# Altium footprint library Headers.PcbLib: 89 footprints (part 3 of 6)
Each footprint in its own frame and in the unit in brackets; x right, y up, seen from the top. Pads: shape width x height; smd on the part's side, far side on the other; paste and mask are expansions set on the pad; w line width, h text height; cw(c..) or ccw(c..) is an arc to the next point about the centre after c.
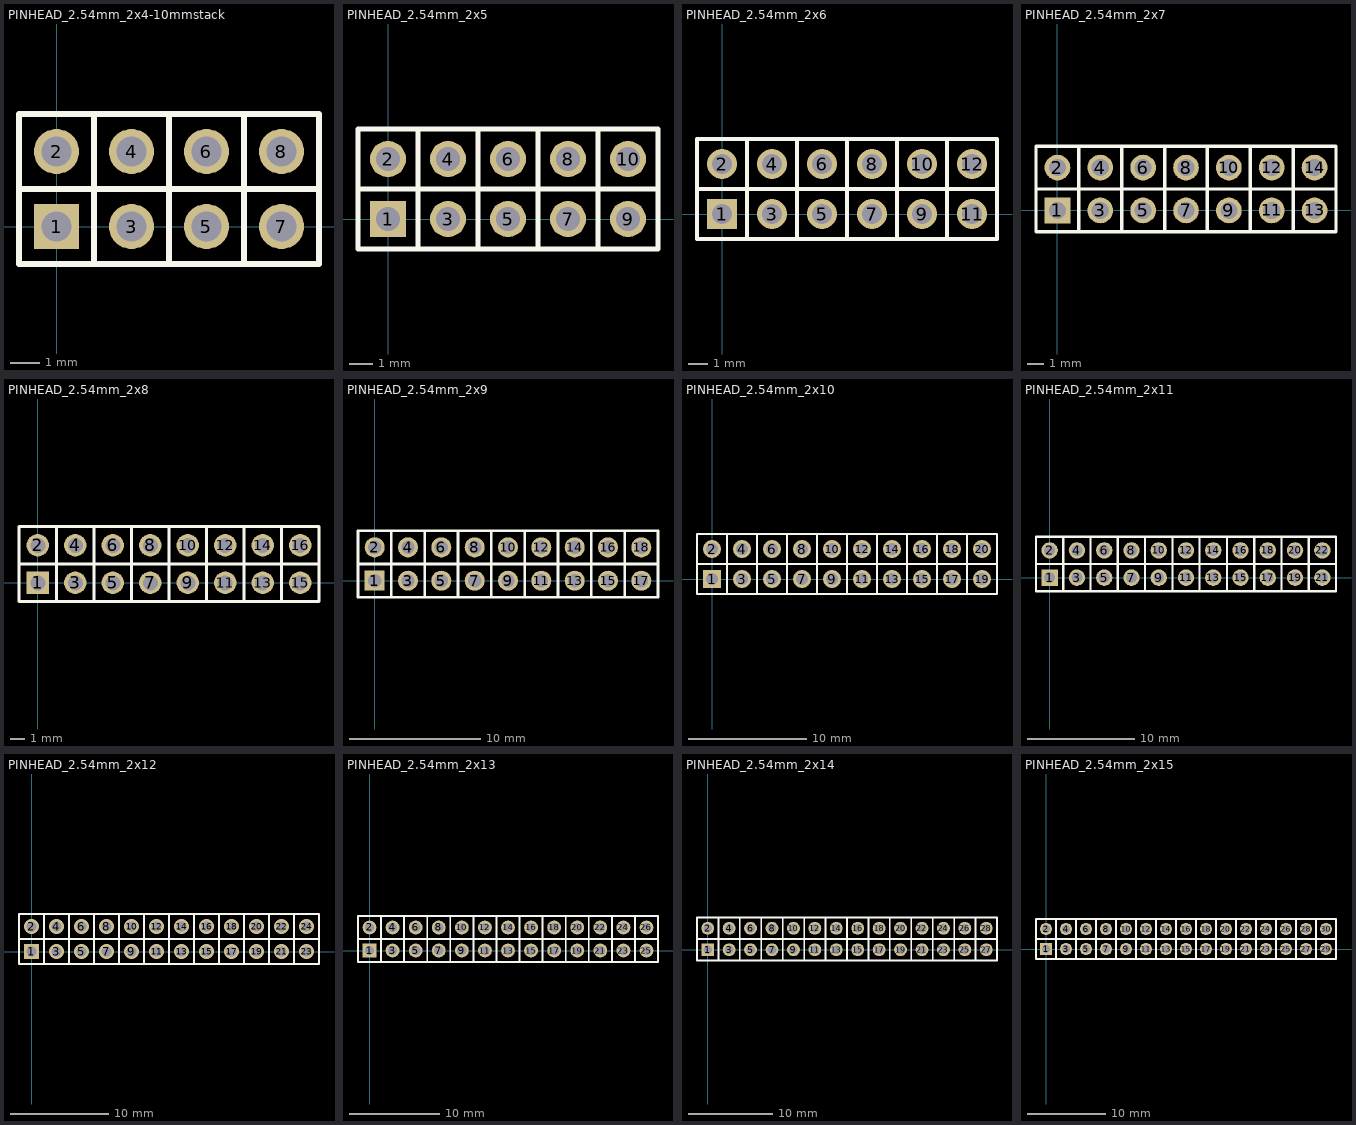
[diagram p2: the footprints below, top view; thin cyan lines are the x and y axes]

## PINHEAD_2.54mm_2x4-10mmstack [mil]
pads (8):
  rect 60x60 hole 40: 1(0,0)
  round 60 hole 40: 2(0,100) 3(100,0) 4(100,100) 5(200,0) 6(200,100) 7(300,0) 8(300,100)
Top Overlay:
  lines w7.87: -50,50 50,50 ; -50,50 -50,150 50,150 ; -50,50 -50,-50 50,-50 ; -50,50 50,50 ; 50,-50 150,-50 ; 50,-50 50,50 ; 50,-50 50,50 ; 50,50 50,150 ; 50,50 50,150 ; 50,50 150,50 ; 50,50 150,50 ; 50,150 150,150 ; 150,-50 150,50 ; 150,-50 250,-50 ; 150,-50 150,50 ; 150,50 150,150 ; 150,50 250,50 ; 150,50 150,150 ; 150,50 250,50 ; 150,150 250,150 ; 250,-50 350,-50 350,150 250,150 ; 250,-50 250,50 ; 250,-50 250,50 ; 250,50 250,150 ; 250,50 250,150 ; 250,50 350,50 250,50
3D body "MALEPINHEADER_2_54mm_2x4_10MMSTACK_54122-106081000LF.stp": height 626.38, standoff -118.11, extent -49.99,-45.08 350.01,145.08

## PINHEAD_2.54mm_2x5 [mil]
pads (10):
  rect 60x60 hole 40: 1(0,0)
  round 60 hole 40: 2(0,100) 3(100,0) 4(100,100) 5(200,0) 6(200,100) 7(300,0) 8(300,100) 9(400,0) 10(400,100)
Top Overlay:
  lines w7.87: -50,50 50,50 ; -50,50 -50,-50 50,-50 ; -50,50 -50,150 50,150 ; -50,50 50,50 ; 50,-50 50,50 ; 50,-50 50,50 ; 50,-50 150,-50 ; 50,50 150,50 ; 50,50 150,50 ; 50,50 50,150 ; 50,50 50,150 ; 50,150 150,150 ; 150,-50 150,50 ; 150,-50 250,-50 ; 150,-50 150,50 ; 150,50 250,50 ; 150,50 150,150 ; 150,50 250,50 ; 150,50 150,150 ; 150,150 250,150 ; 250,-50 250,50 ; 250,-50 250,50 ; 250,-50 350,-50 ; 250,50 350,50 ; 250,50 350,50 ; 250,50 250,150 ; 250,50 250,150 ; 250,150 350,150 ; 350,-50 350,50 ; 350,-50 450,-50 450,150 350,150 ; 350,-50 350,50 ; 350,50 450,50 350,50 ; 350,50 350,150 ; 350,50 350,150
3D body "User Library-HDR1X1 Rectangular Straight.step": height 339.58, standoff -124.98, extent -53.14,-53.14 53.16,53.16
3D body "User Library-HDR1X1 Rectangular Straight.step": height 339.58, standoff -124.98, extent 46.86,-53.14 153.16,53.16
3D body "User Library-HDR1X1 Rectangular Straight.step": height 339.58, standoff -124.98, extent 146.86,-53.14 253.16,53.16
3D body "User Library-HDR1X1 Rectangular Straight.step": height 339.58, standoff -124.98, extent 246.86,-53.14 353.16,53.16
3D body "User Library-HDR1X1 Rectangular Straight.step": height 339.58, standoff -124.98, extent 346.86,-53.14 453.16,53.16
3D body "User Library-HDR1X1 Rectangular Straight.step": height 339.58, standoff -124.98, extent 346.86,46.86 453.16,153.16
3D body "User Library-HDR1X1 Rectangular Straight.step": height 339.58, standoff -124.98, extent 246.86,46.86 353.16,153.16
3D body "User Library-HDR1X1 Rectangular Straight.step": height 339.58, standoff -124.98, extent 146.86,46.86 253.16,153.16
3D body "User Library-HDR1X1 Rectangular Straight.step": height 339.58, standoff -124.98, extent 46.86,46.86 153.16,153.16
3D body "User Library-HDR1X1 Rectangular Straight.step": height 339.58, standoff -124.98, extent -53.14,46.86 53.16,153.16

## PINHEAD_2.54mm_2x6 [mil]
pads (12):
  rect 60x60 hole 40: 1(0,0)
  round 60 hole 40: 2(0,100) 3(100,0) 4(100,100) 5(200,0) 6(200,100) 7(300,0) 8(300,100) 9(400,0) 10(400,100) 11(500,0) 12(500,100)
Top Overlay:
  lines w7.87: -50,50 50,50 ; -50,50 -50,-50 50,-50 ; -50,50 -50,150 50,150 ; -50,50 50,50 ; 50,-50 50,50 ; 50,-50 50,50 ; 50,-50 150,-50 ; 50,50 150,50 ; 50,50 150,50 ; 50,50 50,150 ; 50,50 50,150 ; 50,150 150,150 ; 150,-50 150,50 ; 150,-50 250,-50 ; 150,-50 150,50 ; 150,50 250,50 ; 150,50 150,150 ; 150,50 250,50 ; 150,50 150,150 ; 150,150 250,150 ; 250,-50 250,50 ; 250,-50 250,50 ; 250,-50 350,-50 ; 250,50 350,50 ; 250,50 350,50 ; 250,50 250,150 ; 250,50 250,150 ; 250,150 350,150 ; 350,-50 350,50 ; 350,-50 450,-50 ; 350,-50 350,50 ; 350,50 450,50 ; 350,50 350,150 ; 350,50 450,50 ; 350,50 350,150 ; 350,150 450,150 ; 450,-50 450,50 ; 450,-50 450,50 ; 450,-50 550,-50 550,150 450,150 ; 450,50 550,50 450,50 ; 450,50 450,150 ; 450,50 450,150
3D body "User Library-HDR1X1 Rectangular Straight.step": height 339.58, standoff -124.98, extent -53.14,-53.14 53.16,53.16
3D body "User Library-HDR1X1 Rectangular Straight.step": height 339.58, standoff -124.98, extent 46.86,-53.14 153.16,53.16
3D body "User Library-HDR1X1 Rectangular Straight.step": height 339.58, standoff -124.98, extent 146.86,-53.14 253.16,53.16
3D body "User Library-HDR1X1 Rectangular Straight.step": height 339.58, standoff -124.98, extent 246.86,-53.14 353.16,53.16
3D body "User Library-HDR1X1 Rectangular Straight.step": height 339.58, standoff -124.98, extent 346.86,-53.14 453.16,53.16
3D body "User Library-HDR1X1 Rectangular Straight.step": height 339.58, standoff -124.98, extent 446.86,-53.14 553.16,53.16
3D body "User Library-HDR1X1 Rectangular Straight.step": height 339.58, standoff -124.98, extent 446.86,46.86 553.16,153.16
3D body "User Library-HDR1X1 Rectangular Straight.step": height 339.58, standoff -124.98, extent 346.86,46.86 453.16,153.16
3D body "User Library-HDR1X1 Rectangular Straight.step": height 339.58, standoff -124.98, extent 246.86,46.86 353.16,153.16
3D body "User Library-HDR1X1 Rectangular Straight.step": height 339.58, standoff -124.98, extent 146.86,46.86 253.16,153.16
3D body "User Library-HDR1X1 Rectangular Straight.step": height 339.58, standoff -124.98, extent 46.86,46.86 153.16,153.16
3D body "User Library-HDR1X1 Rectangular Straight.step": height 339.58, standoff -124.98, extent -53.14,46.86 53.16,153.16

## PINHEAD_2.54mm_2x7 [mil]
pads (14):
  rect 60x60 hole 40: 1(0,0)
  round 60 hole 40: 2(0,100) 3(100,0) 4(100,100) 5(200,0) 6(200,100) 7(300,0) 8(300,100) 9(400,0) 10(400,100) 11(500,0) 12(500,100) 13(600,0) 14(600,100)
Top Overlay:
  lines w7.87: -50,50 50,50 ; -50,50 -50,-50 50,-50 ; -50,50 -50,150 50,150 ; -50,50 50,50 ; 50,-50 50,50 ; 50,-50 50,50 ; 50,-50 150,-50 ; 50,50 150,50 ; 50,50 150,50 ; 50,50 50,150 ; 50,50 50,150 ; 50,150 150,150 ; 150,-50 150,50 ; 150,-50 250,-50 ; 150,-50 150,50 ; 150,50 250,50 ; 150,50 150,150 ; 150,50 250,50 ; 150,50 150,150 ; 150,150 250,150 ; 250,-50 250,50 ; 250,-50 250,50 ; 250,-50 350,-50 ; 250,50 350,50 ; 250,50 350,50 ; 250,50 250,150 ; 250,50 250,150 ; 250,150 350,150 ; 350,-50 350,50 ; 350,-50 450,-50 ; 350,-50 350,50 ; 350,50 450,50 ; 350,50 350,150 ; 350,50 450,50 ; 350,50 350,150 ; 350,150 450,150 ; 450,-50 450,50 ; 450,-50 450,50 ; 450,-50 550,-50 ; 450,50 550,50 ; 450,50 550,50 ; 450,50 450,150 ; 450,50 450,150 ; 450,150 550,150 ; 550,-50 550,50 ; 550,-50 650,-50 650,150 550,150 ; 550,-50 550,50 ; 550,50 650,50 550,50 ; 550,50 550,150 ; 550,50 550,150
3D body "User Library-HDR1X1 Rectangular Straight.step": height 339.58, standoff -124.98, extent -53.14,-53.14 53.16,53.16
3D body "User Library-HDR1X1 Rectangular Straight.step": height 339.58, standoff -124.98, extent 46.86,-53.14 153.16,53.16
3D body "User Library-HDR1X1 Rectangular Straight.step": height 339.58, standoff -124.98, extent 146.86,-53.14 253.16,53.16
3D body "User Library-HDR1X1 Rectangular Straight.step": height 339.58, standoff -124.98, extent 246.86,-53.14 353.16,53.16
3D body "User Library-HDR1X1 Rectangular Straight.step": height 339.58, standoff -124.98, extent 346.86,-53.14 453.16,53.16
3D body "User Library-HDR1X1 Rectangular Straight.step": height 339.58, standoff -124.98, extent 446.86,-53.14 553.16,53.16
3D body "User Library-HDR1X1 Rectangular Straight.step": height 339.58, standoff -124.98, extent 546.86,-53.14 653.16,53.16
3D body "User Library-HDR1X1 Rectangular Straight.step": height 339.58, standoff -124.98, extent 546.86,46.86 653.16,153.16
3D body "User Library-HDR1X1 Rectangular Straight.step": height 339.58, standoff -124.98, extent 446.86,46.86 553.16,153.16
3D body "User Library-HDR1X1 Rectangular Straight.step": height 339.58, standoff -124.98, extent 346.86,46.86 453.16,153.16
3D body "User Library-HDR1X1 Rectangular Straight.step": height 339.58, standoff -124.98, extent 246.86,46.86 353.16,153.16
3D body "User Library-HDR1X1 Rectangular Straight.step": height 339.58, standoff -124.98, extent 146.86,46.86 253.16,153.16
3D body "User Library-HDR1X1 Rectangular Straight.step": height 339.58, standoff -124.98, extent 46.86,46.86 153.16,153.16
3D body "User Library-HDR1X1 Rectangular Straight.step": height 339.58, standoff -124.98, extent -53.14,46.86 53.16,153.16

## PINHEAD_2.54mm_2x8 [mil]
pads (16):
  rect 60x60 hole 40: 1(0,0)
  round 60 hole 40: 2(0,100) 3(100,0) 4(100,100) 5(200,0) 6(200,100) 7(300,0) 8(300,100) 9(400,0) 10(400,100) 11(500,0) 12(500,100) 13(600,0) 14(600,100) 15(700,0) 16(700,100)
Top Overlay:
  lines w7.87: -50,50 50,50 ; -50,50 -50,-50 50,-50 ; -50,50 -50,150 50,150 ; -50,50 50,50 ; 50,-50 50,50 ; 50,-50 50,50 ; 50,-50 150,-50 ; 50,50 150,50 ; 50,50 150,50 ; 50,50 50,150 ; 50,50 50,150 ; 50,150 150,150 ; 150,-50 150,50 ; 150,-50 250,-50 ; 150,-50 150,50 ; 150,50 250,50 ; 150,50 150,150 ; 150,50 250,50 ; 150,50 150,150 ; 150,150 250,150 ; 250,-50 250,50 ; 250,-50 250,50 ; 250,-50 350,-50 ; 250,50 350,50 ; 250,50 350,50 ; 250,50 250,150 ; 250,50 250,150 ; 250,150 350,150 ; 350,-50 350,50 ; 350,-50 450,-50 ; 350,-50 350,50 ; 350,50 450,50 ; 350,50 350,150 ; 350,50 450,50 ; 350,50 350,150 ; 350,150 450,150 ; 450,-50 450,50 ; 450,-50 450,50 ; 450,-50 550,-50 ; 450,50 550,50 ; 450,50 550,50 ; 450,50 450,150 ; 450,50 450,150 ; 450,150 550,150 ; 550,-50 550,50 ; 550,-50 650,-50 ; 550,-50 550,50 ; 550,50 650,50 ; 550,50 550,150 ; 550,50 650,50 ; 550,50 550,150 ; 550,150 650,150 ; 650,-50 650,50 ; 650,-50 650,50 ; 650,-50 750,-50 750,150 650,150 ; 650,50 750,50 650,50 ; 650,50 650,150 ; 650,50 650,150
3D body "User Library-HDR1X1 Rectangular Straight.step": height 339.58, standoff -124.98, extent -53.14,-53.14 53.16,53.16
3D body "User Library-HDR1X1 Rectangular Straight.step": height 339.58, standoff -124.98, extent 46.86,-53.14 153.16,53.16
3D body "User Library-HDR1X1 Rectangular Straight.step": height 339.58, standoff -124.98, extent 146.86,-53.14 253.16,53.16
3D body "User Library-HDR1X1 Rectangular Straight.step": height 339.58, standoff -124.98, extent 246.86,-53.14 353.16,53.16
3D body "User Library-HDR1X1 Rectangular Straight.step": height 339.58, standoff -124.98, extent 346.86,-53.14 453.16,53.16
3D body "User Library-HDR1X1 Rectangular Straight.step": height 339.58, standoff -124.98, extent 446.86,-53.14 553.16,53.16
3D body "User Library-HDR1X1 Rectangular Straight.step": height 339.58, standoff -124.98, extent 546.86,-53.14 653.16,53.16
3D body "User Library-HDR1X1 Rectangular Straight.step": height 339.58, standoff -124.98, extent 646.86,-53.14 753.16,53.16
3D body "User Library-HDR1X1 Rectangular Straight.step": height 339.58, standoff -124.98, extent 646.86,46.86 753.16,153.16
3D body "User Library-HDR1X1 Rectangular Straight.step": height 339.58, standoff -124.98, extent 546.86,46.86 653.16,153.16
3D body "User Library-HDR1X1 Rectangular Straight.step": height 339.58, standoff -124.98, extent 446.86,46.86 553.16,153.16
3D body "User Library-HDR1X1 Rectangular Straight.step": height 339.58, standoff -124.98, extent 346.86,46.86 453.16,153.16
3D body "User Library-HDR1X1 Rectangular Straight.step": height 339.58, standoff -124.98, extent 246.86,46.86 353.16,153.16
3D body "User Library-HDR1X1 Rectangular Straight.step": height 339.58, standoff -124.98, extent 146.86,46.86 253.16,153.16
3D body "User Library-HDR1X1 Rectangular Straight.step": height 339.58, standoff -124.98, extent 46.86,46.86 153.16,153.16
3D body "User Library-HDR1X1 Rectangular Straight.step": height 339.58, standoff -124.98, extent -53.14,46.86 53.16,153.16

## PINHEAD_2.54mm_2x9 [mil]
pads (18):
  rect 60x60 hole 40: 1(0,0)
  round 60 hole 40: 2(0,100) 3(100,0) 4(100,100) 5(200,0) 6(200,100) 7(300,0) 8(300,100) 9(400,0) 10(400,100) 11(500,0) 12(500,100) 13(600,0) 14(600,100) 15(700,0) 16(700,100) 17(800,0) 18(800,100)
Top Overlay:
  lines w7.87: -50,50 50,50 ; -50,50 -50,150 50,150 ; -50,50 -50,-50 50,-50 ; -50,50 50,50 ; 50,-50 150,-50 ; 50,-50 50,50 ; 50,-50 50,50 ; 50,50 50,150 ; 50,50 50,150 ; 50,50 150,50 ; 50,50 150,50 ; 50,150 150,150 ; 150,-50 150,50 ; 150,-50 250,-50 ; 150,-50 150,50 ; 150,50 150,150 ; 150,50 250,50 ; 150,50 150,150 ; 150,50 250,50 ; 150,150 250,150 ; 250,-50 350,-50 ; 250,-50 250,50 ; 250,-50 250,50 ; 250,50 250,150 ; 250,50 250,150 ; 250,50 350,50 ; 250,50 350,50 ; 250,150 350,150 ; 350,-50 350,50 ; 350,-50 450,-50 ; 350,-50 350,50 ; 350,50 350,150 ; 350,50 450,50 ; 350,50 350,150 ; 350,50 450,50 ; 350,150 450,150 ; 450,-50 550,-50 ; 450,-50 450,50 ; 450,-50 450,50 ; 450,50 450,150 ; 450,50 450,150 ; 450,50 550,50 ; 450,50 550,50 ; 450,150 550,150 ; 550,-50 550,50 ; 550,-50 650,-50 ; 550,-50 550,50 ; 550,50 550,150 ; 550,50 650,50 ; 550,50 550,150 ; 550,50 650,50 ; 550,150 650,150 ; 650,-50 750,-50 ; 650,-50 650,50 ; 650,-50 650,50 ; 650,50 650,150 ; 650,50 650,150 ; 650,50 750,50 ; 650,50 750,50 ; 650,150 750,150 ; 750,-50 750,50 ; 750,-50 850,-50 850,150 750,150 ; 750,-50 750,50 ; 750,50 750,150 ; 750,50 850,50 750,50 ; 750,50 750,150
3D body "User Library-HDR1X1 Rectangular Straight.step": height 339.58, standoff -124.98, extent -53.14,46.86 53.16,153.16
3D body "User Library-HDR1X1 Rectangular Straight.step": height 339.58, standoff -124.98, extent 46.86,46.86 153.16,153.16
3D body "User Library-HDR1X1 Rectangular Straight.step": height 339.58, standoff -124.98, extent 146.86,46.86 253.16,153.16
3D body "User Library-HDR1X1 Rectangular Straight.step": height 339.58, standoff -124.98, extent 246.86,46.86 353.16,153.16
3D body "User Library-HDR1X1 Rectangular Straight.step": height 339.58, standoff -124.98, extent 346.86,46.86 453.16,153.16
3D body "User Library-HDR1X1 Rectangular Straight.step": height 339.58, standoff -124.98, extent 446.86,46.86 553.16,153.16
3D body "User Library-HDR1X1 Rectangular Straight.step": height 339.58, standoff -124.98, extent 546.86,46.86 653.16,153.16
3D body "User Library-HDR1X1 Rectangular Straight.step": height 339.58, standoff -124.98, extent 646.86,46.86 753.16,153.16
3D body "User Library-HDR1X1 Rectangular Straight.step": height 339.58, standoff -124.98, extent 746.86,46.86 853.16,153.16
3D body "User Library-HDR1X1 Rectangular Straight.step": height 339.58, standoff -124.98, extent 746.86,-53.14 853.16,53.16
3D body "User Library-HDR1X1 Rectangular Straight.step": height 339.58, standoff -124.98, extent 646.86,-53.14 753.16,53.16
3D body "User Library-HDR1X1 Rectangular Straight.step": height 339.58, standoff -124.98, extent 546.86,-53.14 653.16,53.16
3D body "User Library-HDR1X1 Rectangular Straight.step": height 339.58, standoff -124.98, extent 446.86,-53.14 553.16,53.16
3D body "User Library-HDR1X1 Rectangular Straight.step": height 339.58, standoff -124.98, extent 346.86,-53.14 453.16,53.16
3D body "User Library-HDR1X1 Rectangular Straight.step": height 339.58, standoff -124.98, extent 246.86,-53.14 353.16,53.16
3D body "User Library-HDR1X1 Rectangular Straight.step": height 339.58, standoff -124.98, extent 146.86,-53.14 253.16,53.16
3D body "User Library-HDR1X1 Rectangular Straight.step": height 339.58, standoff -124.98, extent 46.86,-53.14 153.16,53.16
3D body "User Library-HDR1X1 Rectangular Straight.step": height 339.58, standoff -124.98, extent -53.14,-53.14 53.16,53.16

## PINHEAD_2.54mm_2x10 [mil]
pads (20):
  rect 60x60 hole 40: 1(0,0)
  round 60 hole 40: 2(0,100) 3(100,0) 4(100,100) 5(200,0) 6(200,100) 7(300,0) 8(300,100) 9(400,0) 10(400,100) 11(500,0) 12(500,100) 13(600,0) 14(600,100) 15(700,0) 16(700,100) 17(800,0) 18(800,100) 19(900,0) 20(900,100)
Top Overlay:
  lines w7.87: -50,50 50,50 ; -50,50 -50,-50 50,-50 ; -50,50 -50,150 50,150 ; -50,50 50,50 ; 50,-50 50,50 ; 50,-50 50,50 ; 50,-50 150,-50 ; 50,50 150,50 ; 50,50 150,50 ; 50,50 50,150 ; 50,50 50,150 ; 50,150 150,150 ; 150,-50 150,50 ; 150,-50 250,-50 ; 150,-50 150,50 ; 150,50 250,50 ; 150,50 150,150 ; 150,50 250,50 ; 150,50 150,150 ; 150,150 250,150 ; 250,-50 250,50 ; 250,-50 250,50 ; 250,-50 350,-50 ; 250,50 350,50 ; 250,50 350,50 ; 250,50 250,150 ; 250,50 250,150 ; 250,150 350,150 ; 350,-50 350,50 ; 350,-50 450,-50 ; 350,-50 350,50 ; 350,50 450,50 ; 350,50 350,150 ; 350,50 450,50 ; 350,50 350,150 ; 350,150 450,150 ; 450,-50 450,50 ; 450,-50 450,50 ; 450,-50 550,-50 ; 450,50 550,50 ; 450,50 550,50 ; 450,50 450,150 ; 450,50 450,150 ; 450,150 550,150 ; 550,-50 550,50 ; 550,-50 650,-50 ; 550,-50 550,50 ; 550,50 650,50 ; 550,50 550,150 ; 550,50 650,50 ; 550,50 550,150 ; 550,150 650,150 ; 650,-50 650,50 ; 650,-50 650,50 ; 650,-50 750,-50 ; 650,50 750,50 ; 650,50 750,50 ; 650,50 650,150 ; 650,50 650,150 ; 650,150 750,150 ; 750,-50 750,50 ; 750,-50 850,-50 ; 750,-50 750,50 ; 750,50 850,50 ; 750,50 750,150 ; 750,50 850,50 ; 750,50 750,150 ; 750,150 850,150 ; 850,-50 850,50 ; 850,-50 850,50 ; 850,-50 950,-50 950,150 850,150 ; 850,50 950,50 850,50 ; 850,50 850,150 ; 850,50 850,150
3D body "User Library-HDR1X1 Rectangular Straight.step": height 339.58, standoff -124.98, extent -53.14,-53.14 53.16,53.16
3D body "User Library-HDR1X1 Rectangular Straight.step": height 339.58, standoff -124.98, extent 46.86,-53.14 153.16,53.16
3D body "User Library-HDR1X1 Rectangular Straight.step": height 339.58, standoff -124.98, extent 146.86,-53.14 253.16,53.16
3D body "User Library-HDR1X1 Rectangular Straight.step": height 339.58, standoff -124.98, extent 246.86,-53.14 353.16,53.16
3D body "User Library-HDR1X1 Rectangular Straight.step": height 339.58, standoff -124.98, extent 346.86,-53.14 453.16,53.16
3D body "User Library-HDR1X1 Rectangular Straight.step": height 339.58, standoff -124.98, extent 446.86,-53.14 553.16,53.16
3D body "User Library-HDR1X1 Rectangular Straight.step": height 339.58, standoff -124.98, extent 546.86,-53.14 653.16,53.16
3D body "User Library-HDR1X1 Rectangular Straight.step": height 339.58, standoff -124.98, extent 646.86,-53.14 753.16,53.16
3D body "User Library-HDR1X1 Rectangular Straight.step": height 339.58, standoff -124.98, extent 746.86,-53.14 853.16,53.16
3D body "User Library-HDR1X1 Rectangular Straight.step": height 339.58, standoff -124.98, extent 846.86,-53.14 953.16,53.16
3D body "User Library-HDR1X1 Rectangular Straight.step": height 339.58, standoff -124.98, extent 846.86,46.86 953.16,153.16
3D body "User Library-HDR1X1 Rectangular Straight.step": height 339.58, standoff -124.98, extent 746.86,46.86 853.16,153.16
3D body "User Library-HDR1X1 Rectangular Straight.step": height 339.58, standoff -124.98, extent 646.86,46.86 753.16,153.16
3D body "User Library-HDR1X1 Rectangular Straight.step": height 339.58, standoff -124.98, extent 546.86,46.86 653.16,153.16
3D body "User Library-HDR1X1 Rectangular Straight.step": height 339.58, standoff -124.98, extent 446.86,46.86 553.16,153.16
3D body "User Library-HDR1X1 Rectangular Straight.step": height 339.58, standoff -124.98, extent 346.86,46.86 453.16,153.16
3D body "User Library-HDR1X1 Rectangular Straight.step": height 339.58, standoff -124.98, extent 246.86,46.86 353.16,153.16
3D body "User Library-HDR1X1 Rectangular Straight.step": height 339.58, standoff -124.98, extent 146.86,46.86 253.16,153.16
3D body "User Library-HDR1X1 Rectangular Straight.step": height 339.58, standoff -124.98, extent 46.86,46.86 153.16,153.16
3D body "User Library-HDR1X1 Rectangular Straight.step": height 339.58, standoff -124.98, extent -53.14,46.86 53.16,153.16

## PINHEAD_2.54mm_2x11 [mil]
pads (22):
  rect 60x60 hole 40: 1(0,0)
  round 60 hole 40: 2(0,100) 3(100,0) 4(100,100) 5(200,0) 6(200,100) 7(300,0) 8(300,100) 9(400,0) 10(400,100) 11(500,0) 12(500,100) 13(600,0) 14(600,100) 15(700,0) 16(700,100) 17(800,0) 18(800,100) 19(900,0) 20(900,100) 21(1000,0) 22(1000,100)
Top Overlay:
  lines w7.87: -50,50 50,50 ; -50,50 -50,-50 50,-50 ; -50,50 -50,150 50,150 ; -50,50 50,50 ; 50,-50 50,50 ; 50,-50 50,50 ; 50,-50 150,-50 ; 50,50 150,50 ; 50,50 150,50 ; 50,50 50,150 ; 50,50 50,150 ; 50,150 150,150 ; 150,-50 150,50 ; 150,-50 250,-50 ; 150,-50 150,50 ; 150,50 250,50 ; 150,50 150,150 ; 150,50 250,50 ; 150,50 150,150 ; 150,150 250,150 ; 250,-50 250,50 ; 250,-50 250,50 ; 250,-50 350,-50 ; 250,50 350,50 ; 250,50 350,50 ; 250,50 250,150 ; 250,50 250,150 ; 250,150 350,150 ; 350,-50 350,50 ; 350,-50 450,-50 ; 350,-50 350,50 ; 350,50 450,50 ; 350,50 350,150 ; 350,50 450,50 ; 350,50 350,150 ; 350,150 450,150 ; 450,-50 450,50 ; 450,-50 450,50 ; 450,-50 550,-50 ; 450,50 550,50 ; 450,50 550,50 ; 450,50 450,150 ; 450,50 450,150 ; 450,150 550,150 ; 550,-50 550,50 ; 550,-50 650,-50 ; 550,-50 550,50 ; 550,50 650,50 ; 550,50 550,150 ; 550,50 650,50 ; 550,50 550,150 ; 550,150 650,150 ; 650,-50 650,50 ; 650,-50 650,50 ; 650,-50 750,-50 ; 650,50 750,50 ; 650,50 750,50 ; 650,50 650,150 ; 650,50 650,150 ; 650,150 750,150 ; 750,-50 750,50 ; 750,-50 850,-50 ; 750,-50 750,50 ; 750,50 850,50 ; 750,50 750,150 ; 750,50 850,50 ; 750,50 750,150 ; 750,150 850,150 ; 850,-50 850,50 ; 850,-50 850,50 ; 850,-50 950,-50 ; 850,50 950,50 ; 850,50 950,50 ; 850,50 850,150 ; 850,50 850,150 ; 850,150 950,150 ; 950,-50 1050,-50 1050,150 950,150 ; 950,-50 950,50 ; 950,-50 950,50 ; 950,50 1050,50 950,50 ; 950,50 950,150 ; 950,50 950,150
3D body "User Library-HDR1X1 Rectangular Straight.step": height 339.58, standoff -124.98, extent 946.86,-53.14 1053.16,53.16
3D body "User Library-HDR1X1 Rectangular Straight.step": height 339.58, standoff -124.98, extent -53.14,-53.14 53.16,53.16
3D body "User Library-HDR1X1 Rectangular Straight.step": height 339.58, standoff -124.98, extent 46.86,-53.14 153.16,53.16
3D body "User Library-HDR1X1 Rectangular Straight.step": height 339.58, standoff -124.98, extent 146.86,-53.14 253.16,53.16
3D body "User Library-HDR1X1 Rectangular Straight.step": height 339.58, standoff -124.98, extent 246.86,-53.14 353.16,53.16
3D body "User Library-HDR1X1 Rectangular Straight.step": height 339.58, standoff -124.98, extent 346.86,-53.14 453.16,53.16
3D body "User Library-HDR1X1 Rectangular Straight.step": height 339.58, standoff -124.98, extent 446.86,-53.14 553.16,53.16
3D body "User Library-HDR1X1 Rectangular Straight.step": height 339.58, standoff -124.98, extent 546.86,-53.14 653.16,53.16
3D body "User Library-HDR1X1 Rectangular Straight.step": height 339.58, standoff -124.98, extent 646.86,-53.14 753.16,53.16
3D body "User Library-HDR1X1 Rectangular Straight.step": height 339.58, standoff -124.98, extent 746.86,-53.14 853.16,53.16
3D body "User Library-HDR1X1 Rectangular Straight.step": height 339.58, standoff -124.98, extent 846.86,-53.14 953.16,53.16
3D body "User Library-HDR1X1 Rectangular Straight.step": height 339.58, standoff -124.98, extent 846.86,46.86 953.16,153.16
3D body "User Library-HDR1X1 Rectangular Straight.step": height 339.58, standoff -124.98, extent 746.86,46.86 853.16,153.16
3D body "User Library-HDR1X1 Rectangular Straight.step": height 339.58, standoff -124.98, extent 646.86,46.86 753.16,153.16
3D body "User Library-HDR1X1 Rectangular Straight.step": height 339.58, standoff -124.98, extent 546.86,46.86 653.16,153.16
3D body "User Library-HDR1X1 Rectangular Straight.step": height 339.58, standoff -124.98, extent 446.86,46.86 553.16,153.16
3D body "User Library-HDR1X1 Rectangular Straight.step": height 339.58, standoff -124.98, extent 346.86,46.86 453.16,153.16
3D body "User Library-HDR1X1 Rectangular Straight.step": height 339.58, standoff -124.98, extent 246.86,46.86 353.16,153.16
3D body "User Library-HDR1X1 Rectangular Straight.step": height 339.58, standoff -124.98, extent 146.86,46.86 253.16,153.16
3D body "User Library-HDR1X1 Rectangular Straight.step": height 339.58, standoff -124.98, extent 46.86,46.86 153.16,153.16
3D body "User Library-HDR1X1 Rectangular Straight.step": height 339.58, standoff -124.98, extent -53.14,46.86 53.16,153.16
3D body "User Library-HDR1X1 Rectangular Straight.step": height 339.58, standoff -124.98, extent 946.86,46.86 1053.16,153.16

## PINHEAD_2.54mm_2x12 [mil]
pads (24):
  rect 60x60 hole 40: 1(0,0)
  round 60 hole 40: 2(0,100) 3(100,0) 4(100,100) 5(200,0) 6(200,100) 7(300,0) 8(300,100) 9(400,0) 10(400,100) 11(500,0) 12(500,100) 13(600,0) 14(600,100) 15(700,0) 16(700,100) 17(800,0) 18(800,100) 19(900,0) 20(900,100) 21(1000,0) 22(1000,100) 23(1100,0) 24(1100,100)
Top Overlay:
  lines w7.87: -50,50 50,50 ; -50,50 -50,-50 50,-50 ; -50,50 -50,150 50,150 ; -50,50 50,50 ; 50,-50 50,50 ; 50,-50 50,50 ; 50,-50 150,-50 ; 50,50 150,50 ; 50,50 150,50 ; 50,50 50,150 ; 50,50 50,150 ; 50,150 150,150 ; 150,-50 150,50 ; 150,-50 250,-50 ; 150,-50 150,50 ; 150,50 250,50 ; 150,50 150,150 ; 150,50 250,50 ; 150,50 150,150 ; 150,150 250,150 ; 250,-50 250,50 ; 250,-50 250,50 ; 250,-50 350,-50 ; 250,50 350,50 ; 250,50 350,50 ; 250,50 250,150 ; 250,50 250,150 ; 250,150 350,150 ; 350,-50 350,50 ; 350,-50 450,-50 ; 350,-50 350,50 ; 350,50 450,50 ; 350,50 350,150 ; 350,50 450,50 ; 350,50 350,150 ; 350,150 450,150 ; 450,-50 450,50 ; 450,-50 450,50 ; 450,-50 550,-50 ; 450,50 550,50 ; 450,50 550,50 ; 450,50 450,150 ; 450,50 450,150 ; 450,150 550,150 ; 550,-50 550,50 ; 550,-50 650,-50 ; 550,-50 550,50 ; 550,50 650,50 ; 550,50 550,150 ; 550,50 650,50 ; 550,50 550,150 ; 550,150 650,150 ; 650,-50 650,50 ; 650,-50 650,50 ; 650,-50 750,-50 ; 650,50 750,50 ; 650,50 750,50 ; 650,50 650,150 ; 650,50 650,150 ; 650,150 750,150 ; 750,-50 750,50 ; 750,-50 850,-50 ; 750,-50 750,50 ; 750,50 850,50 ; 750,50 750,150 ; 750,50 850,50 ; 750,50 750,150 ; 750,150 850,150 ; 850,-50 850,50 ; 850,-50 850,50 ; 850,-50 950,-50 ; 850,50 950,50 ; 850,50 950,50 ; 850,50 850,150 ; 850,50 850,150 ; 850,150 950,150 ; 950,-50 1050,-50 ; 950,-50 950,50 ; 950,-50 950,50 ; 950,50 1050,50 ; 950,50 950,150 ; 950,50 950,150 ; 950,50 1050,50 ; 950,150 1050,150 ; 1050,-50 1050,50 ; 1050,-50 1050,50 ; 1050,-50 1150,-50 1150,150 1050,150 ; 1050,50 1150,50 1050,50 ; 1050,50 1050,150 ; 1050,50 1050,150
3D body "User Library-HDR1X1 Rectangular Straight.step": height 339.58, standoff -124.98, extent 946.86,-53.14 1053.16,53.16
3D body "User Library-HDR1X1 Rectangular Straight.step": height 339.58, standoff -124.98, extent 1046.86,-53.14 1153.16,53.16
3D body "User Library-HDR1X1 Rectangular Straight.step": height 339.58, standoff -124.98, extent -53.14,-53.14 53.16,53.16
3D body "User Library-HDR1X1 Rectangular Straight.step": height 339.58, standoff -124.98, extent 46.86,-53.14 153.16,53.16
3D body "User Library-HDR1X1 Rectangular Straight.step": height 339.58, standoff -124.98, extent 146.86,-53.14 253.16,53.16
3D body "User Library-HDR1X1 Rectangular Straight.step": height 339.58, standoff -124.98, extent 246.86,-53.14 353.16,53.16
3D body "User Library-HDR1X1 Rectangular Straight.step": height 339.58, standoff -124.98, extent 346.86,-53.14 453.16,53.16
3D body "User Library-HDR1X1 Rectangular Straight.step": height 339.58, standoff -124.98, extent 446.86,-53.14 553.16,53.16
3D body "User Library-HDR1X1 Rectangular Straight.step": height 339.58, standoff -124.98, extent 546.86,-53.14 653.16,53.16
3D body "User Library-HDR1X1 Rectangular Straight.step": height 339.58, standoff -124.98, extent 646.86,-53.14 753.16,53.16
3D body "User Library-HDR1X1 Rectangular Straight.step": height 339.58, standoff -124.98, extent 746.86,-53.14 853.16,53.16
3D body "User Library-HDR1X1 Rectangular Straight.step": height 339.58, standoff -124.98, extent 846.86,-53.14 953.16,53.16
3D body "User Library-HDR1X1 Rectangular Straight.step": height 339.58, standoff -124.98, extent 846.86,46.86 953.16,153.16
3D body "User Library-HDR1X1 Rectangular Straight.step": height 339.58, standoff -124.98, extent 746.86,46.86 853.16,153.16
3D body "User Library-HDR1X1 Rectangular Straight.step": height 339.58, standoff -124.98, extent 646.86,46.86 753.16,153.16
3D body "User Library-HDR1X1 Rectangular Straight.step": height 339.58, standoff -124.98, extent 546.86,46.86 653.16,153.16
3D body "User Library-HDR1X1 Rectangular Straight.step": height 339.58, standoff -124.98, extent 446.86,46.86 553.16,153.16
3D body "User Library-HDR1X1 Rectangular Straight.step": height 339.58, standoff -124.98, extent 346.86,46.86 453.16,153.16
3D body "User Library-HDR1X1 Rectangular Straight.step": height 339.58, standoff -124.98, extent 246.86,46.86 353.16,153.16
3D body "User Library-HDR1X1 Rectangular Straight.step": height 339.58, standoff -124.98, extent 146.86,46.86 253.16,153.16
3D body "User Library-HDR1X1 Rectangular Straight.step": height 339.58, standoff -124.98, extent 46.86,46.86 153.16,153.16
3D body "User Library-HDR1X1 Rectangular Straight.step": height 339.58, standoff -124.98, extent -53.14,46.86 53.16,153.16
3D body "User Library-HDR1X1 Rectangular Straight.step": height 339.58, standoff -124.98, extent 1046.86,46.86 1153.16,153.16
3D body "User Library-HDR1X1 Rectangular Straight.step": height 339.58, standoff -124.98, extent 946.86,46.86 1053.16,153.16

## PINHEAD_2.54mm_2x13 [mil]
pads (26):
  rect 60x60 hole 40: 1(0,0)
  round 60 hole 40: 2(0,100) 3(100,0) 4(100,100) 5(200,0) 6(200,100) 7(300,0) 8(300,100) 9(400,0) 10(400,100) 11(500,0) 12(500,100) 13(600,0) 14(600,100) 15(700,0) 16(700,100) 17(800,0) 18(800,100) 19(900,0) 20(900,100) 21(1000,0) 22(1000,100) 23(1100,0) 24(1100,100) 25(1200,0) 26(1200,100)
Top Overlay:
  lines w7.87: -50,50 50,50 ; -50,50 -50,-50 50,-50 ; -50,50 -50,150 50,150 ; -50,50 50,50 ; 50,-50 50,50 ; 50,-50 50,50 ; 50,-50 150,-50 ; 50,50 150,50 ; 50,50 150,50 ; 50,50 50,150 ; 50,50 50,150 ; 50,150 150,150 ; 150,-50 150,50 ; 150,-50 250,-50 ; 150,-50 150,50 ; 150,50 250,50 ; 150,50 150,150 ; 150,50 250,50 ; 150,50 150,150 ; 150,150 250,150 ; 250,-50 250,50 ; 250,-50 250,50 ; 250,-50 350,-50 ; 250,50 350,50 ; 250,50 350,50 ; 250,50 250,150 ; 250,50 250,150 ; 250,150 350,150 ; 350,-50 350,50 ; 350,-50 450,-50 ; 350,-50 350,50 ; 350,50 450,50 ; 350,50 350,150 ; 350,50 450,50 ; 350,50 350,150 ; 350,150 450,150 ; 450,-50 450,50 ; 450,-50 450,50 ; 450,-50 550,-50 ; 450,50 550,50 ; 450,50 550,50 ; 450,50 450,150 ; 450,50 450,150 ; 450,150 550,150 ; 550,-50 550,50 ; 550,-50 650,-50 ; 550,-50 550,50 ; 550,50 650,50 ; 550,50 550,150 ; 550,50 650,50 ; 550,50 550,150 ; 550,150 650,150 ; 650,-50 650,50 ; 650,-50 650,50 ; 650,-50 750,-50 ; 650,50 750,50 ; 650,50 750,50 ; 650,50 650,150 ; 650,50 650,150 ; 650,150 750,150 ; 750,-50 750,50 ; 750,-50 850,-50 ; 750,-50 750,50 ; 750,50 850,50 ; 750,50 750,150 ; 750,50 850,50 ; 750,50 750,150 ; 750,150 850,150 ; 850,-50 850,50 ; 850,-50 850,50 ; 850,-50 950,-50 ; 850,50 950,50 ; 850,50 950,50 ; 850,50 850,150 ; 850,50 850,150 ; 850,150 950,150 ; 950,-50 1050,-50 ; 950,-50 950,50 ; 950,-50 950,50 ; 950,50 1050,50 ; 950,50 950,150 ; 950,50 950,150 ; 950,50 1050,50 ; 950,150 1050,150 ; 1050,-50 1050,50 ; 1050,-50 1050,50 ; 1050,-50 1150,-50 ; 1050,50 1150,50 ; 1050,50 1150,50 ; 1050,50 1050,150 ; 1050,50 1050,150 ; 1050,150 1150,150 ; 1150,-50 1150,50 ; 1150,-50 1250,-50 1250,150 1150,150 ; 1150,-50 1150,50 ; 1150,50 1250,50 1150,50 ; 1150,50 1150,150 ; 1150,50 1150,150
3D body "User Library-HDR1X1 Rectangular Straight.step": height 339.58, standoff -124.98, extent 946.86,-53.14 1053.16,53.16
3D body "User Library-HDR1X1 Rectangular Straight.step": height 339.58, standoff -124.98, extent 1046.86,-53.14 1153.16,53.16
3D body "User Library-HDR1X1 Rectangular Straight.step": height 339.58, standoff -124.98, extent 1146.86,-53.14 1253.16,53.16
3D body "User Library-HDR1X1 Rectangular Straight.step": height 339.58, standoff -124.98, extent -53.14,-53.14 53.16,53.16
3D body "User Library-HDR1X1 Rectangular Straight.step": height 339.58, standoff -124.98, extent 46.86,-53.14 153.16,53.16
3D body "User Library-HDR1X1 Rectangular Straight.step": height 339.58, standoff -124.98, extent 146.86,-53.14 253.16,53.16
3D body "User Library-HDR1X1 Rectangular Straight.step": height 339.58, standoff -124.98, extent 246.86,-53.14 353.16,53.16
3D body "User Library-HDR1X1 Rectangular Straight.step": height 339.58, standoff -124.98, extent 346.86,-53.14 453.16,53.16
3D body "User Library-HDR1X1 Rectangular Straight.step": height 339.58, standoff -124.98, extent 446.86,-53.14 553.16,53.16
3D body "User Library-HDR1X1 Rectangular Straight.step": height 339.58, standoff -124.98, extent 546.86,-53.14 653.16,53.16
3D body "User Library-HDR1X1 Rectangular Straight.step": height 339.58, standoff -124.98, extent 646.86,-53.14 753.16,53.16
3D body "User Library-HDR1X1 Rectangular Straight.step": height 339.58, standoff -124.98, extent 746.86,-53.14 853.16,53.16
3D body "User Library-HDR1X1 Rectangular Straight.step": height 339.58, standoff -124.98, extent 846.86,-53.14 953.16,53.16
3D body "User Library-HDR1X1 Rectangular Straight.step": height 339.58, standoff -124.98, extent 846.86,46.86 953.16,153.16
3D body "User Library-HDR1X1 Rectangular Straight.step": height 339.58, standoff -124.98, extent 746.86,46.86 853.16,153.16
3D body "User Library-HDR1X1 Rectangular Straight.step": height 339.58, standoff -124.98, extent 646.86,46.86 753.16,153.16
3D body "User Library-HDR1X1 Rectangular Straight.step": height 339.58, standoff -124.98, extent 546.86,46.86 653.16,153.16
3D body "User Library-HDR1X1 Rectangular Straight.step": height 339.58, standoff -124.98, extent 446.86,46.86 553.16,153.16
3D body "User Library-HDR1X1 Rectangular Straight.step": height 339.58, standoff -124.98, extent 346.86,46.86 453.16,153.16
3D body "User Library-HDR1X1 Rectangular Straight.step": height 339.58, standoff -124.98, extent 246.86,46.86 353.16,153.16
3D body "User Library-HDR1X1 Rectangular Straight.step": height 339.58, standoff -124.98, extent 146.86,46.86 253.16,153.16
3D body "User Library-HDR1X1 Rectangular Straight.step": height 339.58, standoff -124.98, extent 46.86,46.86 153.16,153.16
3D body "User Library-HDR1X1 Rectangular Straight.step": height 339.58, standoff -124.98, extent -53.14,46.86 53.16,153.16
3D body "User Library-HDR1X1 Rectangular Straight.step": height 339.58, standoff -124.98, extent 1146.86,46.86 1253.16,153.16
3D body "User Library-HDR1X1 Rectangular Straight.step": height 339.58, standoff -124.98, extent 1046.86,46.86 1153.16,153.16
3D body "User Library-HDR1X1 Rectangular Straight.step": height 339.58, standoff -124.98, extent 946.86,46.86 1053.16,153.16

## PINHEAD_2.54mm_2x14 [mil]
pads (28):
  rect 60x60 hole 40: 1(0,0)
  round 60 hole 40: 2(0,100) 3(100,0) 4(100,100) 5(200,0) 6(200,100) 7(300,0) 8(300,100) 9(400,0) 10(400,100) 11(500,0) 12(500,100) 13(600,0) 14(600,100) 15(700,0) 16(700,100) 17(800,0) 18(800,100) 19(900,0) 20(900,100) 21(1000,0) 22(1000,100) 23(1100,0) 24(1100,100) 25(1200,0) 26(1200,100) 27(1300,0) 28(1300,100)
Top Overlay:
  lines w7.87: -50,50 50,50 ; -50,50 -50,-50 50,-50 ; -50,50 -50,150 50,150 ; -50,50 50,50 ; 50,-50 50,50 ; 50,-50 50,50 ; 50,-50 150,-50 ; 50,50 150,50 ; 50,50 150,50 ; 50,50 50,150 ; 50,50 50,150 ; 50,150 150,150 ; 150,-50 150,50 ; 150,-50 250,-50 ; 150,-50 150,50 ; 150,50 250,50 ; 150,50 150,150 ; 150,50 250,50 ; 150,50 150,150 ; 150,150 250,150 ; 250,-50 250,50 ; 250,-50 250,50 ; 250,-50 350,-50 ; 250,50 350,50 ; 250,50 350,50 ; 250,50 250,150 ; 250,50 250,150 ; 250,150 350,150 ; 350,-50 350,50 ; 350,-50 450,-50 ; 350,-50 350,50 ; 350,50 450,50 ; 350,50 350,150 ; 350,50 450,50 ; 350,50 350,150 ; 350,150 450,150 ; 450,-50 450,50 ; 450,-50 450,50 ; 450,-50 550,-50 ; 450,50 550,50 ; 450,50 550,50 ; 450,50 450,150 ; 450,50 450,150 ; 450,150 550,150 ; 550,-50 550,50 ; 550,-50 650,-50 ; 550,-50 550,50 ; 550,50 650,50 ; 550,50 550,150 ; 550,50 650,50 ; 550,50 550,150 ; 550,150 650,150 ; 650,-50 650,50 ; 650,-50 650,50 ; 650,-50 750,-50 ; 650,50 750,50 ; 650,50 750,50 ; 650,50 650,150 ; 650,50 650,150 ; 650,150 750,150 ; 750,-50 750,50 ; 750,-50 850,-50 ; 750,-50 750,50 ; 750,50 850,50 ; 750,50 750,150 ; 750,50 850,50 ; 750,50 750,150 ; 750,150 850,150 ; 850,-50 850,50 ; 850,-50 850,50 ; 850,-50 950,-50 ; 850,50 950,50 ; 850,50 950,50 ; 850,50 850,150 ; 850,50 850,150 ; 850,150 950,150 ; 950,-50 1050,-50 ; 950,-50 950,50 ; 950,-50 950,50 ; 950,50 1050,50 ; 950,50 950,150 ; 950,50 950,150 ; 950,50 1050,50 ; 950,150 1050,150 ; 1050,-50 1050,50 ; 1050,-50 1050,50 ; 1050,-50 1150,-50 ; 1050,50 1150,50 ; 1050,50 1150,50 ; 1050,50 1050,150 ; 1050,50 1050,150 ; 1050,150 1150,150 ; 1150,-50 1150,50 ; 1150,-50 1250,-50 ; 1150,-50 1150,50 ; 1150,50 1250,50 ; 1150,50 1150,150 ; 1150,50 1250,50 ; 1150,50 1150,150 ; 1150,150 1250,150 ; 1250,-50 1250,50 ; 1250,-50 1250,50 ; 1250,-50 1350,-50 1350,150 1250,150 ; 1250,50 1350,50 1250,50 ; 1250,50 1250,150 ; 1250,50 1250,150
3D body "User Library-HDR1X1 Rectangular Straight.step": height 339.58, standoff -124.98, extent 946.86,-53.14 1053.16,53.16
3D body "User Library-HDR1X1 Rectangular Straight.step": height 339.58, standoff -124.98, extent 1046.86,-53.14 1153.16,53.16
3D body "User Library-HDR1X1 Rectangular Straight.step": height 339.58, standoff -124.98, extent 1146.86,-53.14 1253.16,53.16
3D body "User Library-HDR1X1 Rectangular Straight.step": height 339.58, standoff -124.98, extent 1246.86,-53.14 1353.16,53.16
3D body "User Library-HDR1X1 Rectangular Straight.step": height 339.58, standoff -124.98, extent -53.14,-53.14 53.16,53.16
3D body "User Library-HDR1X1 Rectangular Straight.step": height 339.58, standoff -124.98, extent 46.86,-53.14 153.16,53.16
3D body "User Library-HDR1X1 Rectangular Straight.step": height 339.58, standoff -124.98, extent 146.86,-53.14 253.16,53.16
3D body "User Library-HDR1X1 Rectangular Straight.step": height 339.58, standoff -124.98, extent 246.86,-53.14 353.16,53.16
3D body "User Library-HDR1X1 Rectangular Straight.step": height 339.58, standoff -124.98, extent 346.86,-53.14 453.16,53.16
3D body "User Library-HDR1X1 Rectangular Straight.step": height 339.58, standoff -124.98, extent 446.86,-53.14 553.16,53.16
3D body "User Library-HDR1X1 Rectangular Straight.step": height 339.58, standoff -124.98, extent 546.86,-53.14 653.16,53.16
3D body "User Library-HDR1X1 Rectangular Straight.step": height 339.58, standoff -124.98, extent 646.86,-53.14 753.16,53.16
3D body "User Library-HDR1X1 Rectangular Straight.step": height 339.58, standoff -124.98, extent 746.86,-53.14 853.16,53.16
3D body "User Library-HDR1X1 Rectangular Straight.step": height 339.58, standoff -124.98, extent 846.86,-53.14 953.16,53.16
3D body "User Library-HDR1X1 Rectangular Straight.step": height 339.58, standoff -124.98, extent 846.86,46.86 953.16,153.16
3D body "User Library-HDR1X1 Rectangular Straight.step": height 339.58, standoff -124.98, extent 746.86,46.86 853.16,153.16
3D body "User Library-HDR1X1 Rectangular Straight.step": height 339.58, standoff -124.98, extent 646.86,46.86 753.16,153.16
3D body "User Library-HDR1X1 Rectangular Straight.step": height 339.58, standoff -124.98, extent 546.86,46.86 653.16,153.16
3D body "User Library-HDR1X1 Rectangular Straight.step": height 339.58, standoff -124.98, extent 446.86,46.86 553.16,153.16
3D body "User Library-HDR1X1 Rectangular Straight.step": height 339.58, standoff -124.98, extent 346.86,46.86 453.16,153.16
3D body "User Library-HDR1X1 Rectangular Straight.step": height 339.58, standoff -124.98, extent 246.86,46.86 353.16,153.16
3D body "User Library-HDR1X1 Rectangular Straight.step": height 339.58, standoff -124.98, extent 146.86,46.86 253.16,153.16
3D body "User Library-HDR1X1 Rectangular Straight.step": height 339.58, standoff -124.98, extent 46.86,46.86 153.16,153.16
3D body "User Library-HDR1X1 Rectangular Straight.step": height 339.58, standoff -124.98, extent -53.14,46.86 53.16,153.16
3D body "User Library-HDR1X1 Rectangular Straight.step": height 339.58, standoff -124.98, extent 1246.86,46.86 1353.16,153.16
3D body "User Library-HDR1X1 Rectangular Straight.step": height 339.58, standoff -124.98, extent 1146.86,46.86 1253.16,153.16
3D body "User Library-HDR1X1 Rectangular Straight.step": height 339.58, standoff -124.98, extent 1046.86,46.86 1153.16,153.16
3D body "User Library-HDR1X1 Rectangular Straight.step": height 339.58, standoff -124.98, extent 946.86,46.86 1053.16,153.16

## PINHEAD_2.54mm_2x15 [mil]
pads (30):
  rect 60x60 hole 40: 1(0,0)
  round 60 hole 40: 2(0,100) 3(100,0) 4(100,100) 5(200,0) 6(200,100) 7(300,0) 8(300,100) 9(400,0) 10(400,100) 11(500,0) 12(500,100) 13(600,0) 14(600,100) 15(700,0) 16(700,100) 17(800,0) 18(800,100) 19(900,0) 20(900,100) 21(1000,0) 22(1000,100) 23(1100,0) 24(1100,100) 25(1200,0) 26(1200,100) 27(1300,0) 28(1300,100) 29(1400,0) 30(1400,100)
Top Overlay:
  lines w7.87: -50,50 50,50 ; -50,50 -50,-50 50,-50 ; -50,50 -50,150 50,150 ; -50,50 50,50 ; 50,-50 50,50 ; 50,-50 50,50 ; 50,-50 150,-50 ; 50,50 150,50 ; 50,50 150,50 ; 50,50 50,150 ; 50,50 50,150 ; 50,150 150,150 ; 150,-50 150,50 ; 150,-50 250,-50 ; 150,-50 150,50 ; 150,50 250,50 ; 150,50 150,150 ; 150,50 250,50 ; 150,50 150,150 ; 150,150 250,150 ; 250,-50 250,50 ; 250,-50 250,50 ; 250,-50 350,-50 ; 250,50 350,50 ; 250,50 350,50 ; 250,50 250,150 ; 250,50 250,150 ; 250,150 350,150 ; 350,-50 350,50 ; 350,-50 450,-50 ; 350,-50 350,50 ; 350,50 450,50 ; 350,50 350,150 ; 350,50 450,50 ; 350,50 350,150 ; 350,150 450,150 ; 450,-50 450,50 ; 450,-50 450,50 ; 450,-50 550,-50 ; 450,50 550,50 ; 450,50 550,50 ; 450,50 450,150 ; 450,50 450,150 ; 450,150 550,150 ; 550,-50 550,50 ; 550,-50 650,-50 ; 550,-50 550,50 ; 550,50 650,50 ; 550,50 550,150 ; 550,50 650,50 ; 550,50 550,150 ; 550,150 650,150 ; 650,-50 650,50 ; 650,-50 650,50 ; 650,-50 750,-50 ; 650,50 750,50 ; 650,50 750,50 ; 650,50 650,150 ; 650,50 650,150 ; 650,150 750,150 ; 750,-50 750,50 ; 750,-50 850,-50 ; 750,-50 750,50 ; 750,50 850,50 ; 750,50 750,150 ; 750,50 850,50 ; 750,50 750,150 ; 750,150 850,150 ; 850,-50 850,50 ; 850,-50 850,50 ; 850,-50 950,-50 ; 850,50 950,50 ; 850,50 950,50 ; 850,50 850,150 ; 850,50 850,150 ; 850,150 950,150 ; 950,-50 1050,-50 ; 950,-50 950,50 ; 950,-50 950,50 ; 950,50 1050,50 ; 950,50 950,150 ; 950,50 950,150 ; 950,50 1050,50 ; 950,150 1050,150 ; 1050,-50 1050,50 ; 1050,-50 1050,50 ; 1050,-50 1150,-50 ; 1050,50 1150,50 ; 1050,50 1150,50 ; 1050,50 1050,150 ; 1050,50 1050,150 ; 1050,150 1150,150 ; 1150,-50 1150,50 ; 1150,-50 1250,-50 ; 1150,-50 1150,50 ; 1150,50 1250,50 ; 1150,50 1150,150 ; 1150,50 1250,50 ; 1150,50 1150,150 ; 1150,150 1250,150 ; 1250,-50 1250,50 ; 1250,-50 1250,50 ; 1250,-50 1350,-50 ; 1250,50 1350,50 ; 1250,50 1350,50 ; 1250,50 1250,150 ; 1250,50 1250,150 ; 1250,150 1350,150 ; 1350,-50 1350,50 ; 1350,-50 1450,-50 1450,150 1350,150 ; 1350,-50 1350,50 ; 1350,50 1450,50 1350,50 ; 1350,50 1350,150 ; 1350,50 1350,150
3D body "User Library-HDR1X1 Rectangular Straight.step": height 339.58, standoff -124.98, extent 946.86,-53.14 1053.16,53.16
3D body "User Library-HDR1X1 Rectangular Straight.step": height 339.58, standoff -124.98, extent 1046.86,-53.14 1153.16,53.16
3D body "User Library-HDR1X1 Rectangular Straight.step": height 339.58, standoff -124.98, extent 1146.86,-53.14 1253.16,53.16
3D body "User Library-HDR1X1 Rectangular Straight.step": height 339.58, standoff -124.98, extent 1246.86,-53.14 1353.16,53.16
3D body "User Library-HDR1X1 Rectangular Straight.step": height 339.58, standoff -124.98, extent 1346.86,-53.14 1453.16,53.16
3D body "User Library-HDR1X1 Rectangular Straight.step": height 339.58, standoff -124.98, extent -53.14,-53.14 53.16,53.16
3D body "User Library-HDR1X1 Rectangular Straight.step": height 339.58, standoff -124.98, extent 46.86,-53.14 153.16,53.16
3D body "User Library-HDR1X1 Rectangular Straight.step": height 339.58, standoff -124.98, extent 146.86,-53.14 253.16,53.16
3D body "User Library-HDR1X1 Rectangular Straight.step": height 339.58, standoff -124.98, extent 246.86,-53.14 353.16,53.16
3D body "User Library-HDR1X1 Rectangular Straight.step": height 339.58, standoff -124.98, extent 346.86,-53.14 453.16,53.16
3D body "User Library-HDR1X1 Rectangular Straight.step": height 339.58, standoff -124.98, extent 446.86,-53.14 553.16,53.16
3D body "User Library-HDR1X1 Rectangular Straight.step": height 339.58, standoff -124.98, extent 546.86,-53.14 653.16,53.16
3D body "User Library-HDR1X1 Rectangular Straight.step": height 339.58, standoff -124.98, extent 646.86,-53.14 753.16,53.16
3D body "User Library-HDR1X1 Rectangular Straight.step": height 339.58, standoff -124.98, extent 746.86,-53.14 853.16,53.16
3D body "User Library-HDR1X1 Rectangular Straight.step": height 339.58, standoff -124.98, extent 846.86,-53.14 953.16,53.16
3D body "User Library-HDR1X1 Rectangular Straight.step": height 339.58, standoff -124.98, extent 846.86,46.86 953.16,153.16
3D body "User Library-HDR1X1 Rectangular Straight.step": height 339.58, standoff -124.98, extent 746.86,46.86 853.16,153.16
3D body "User Library-HDR1X1 Rectangular Straight.step": height 339.58, standoff -124.98, extent 646.86,46.86 753.16,153.16
3D body "User Library-HDR1X1 Rectangular Straight.step": height 339.58, standoff -124.98, extent 546.86,46.86 653.16,153.16
3D body "User Library-HDR1X1 Rectangular Straight.step": height 339.58, standoff -124.98, extent 446.86,46.86 553.16,153.16
3D body "User Library-HDR1X1 Rectangular Straight.step": height 339.58, standoff -124.98, extent 346.86,46.86 453.16,153.16
3D body "User Library-HDR1X1 Rectangular Straight.step": height 339.58, standoff -124.98, extent 246.86,46.86 353.16,153.16
3D body "User Library-HDR1X1 Rectangular Straight.step": height 339.58, standoff -124.98, extent 146.86,46.86 253.16,153.16
3D body "User Library-HDR1X1 Rectangular Straight.step": height 339.58, standoff -124.98, extent 46.86,46.86 153.16,153.16
3D body "User Library-HDR1X1 Rectangular Straight.step": height 339.58, standoff -124.98, extent -53.14,46.86 53.16,153.16
3D body "User Library-HDR1X1 Rectangular Straight.step": height 339.58, standoff -124.98, extent 1346.86,46.86 1453.16,153.16
3D body "User Library-HDR1X1 Rectangular Straight.step": height 339.58, standoff -124.98, extent 1246.86,46.86 1353.16,153.16
3D body "User Library-HDR1X1 Rectangular Straight.step": height 339.58, standoff -124.98, extent 1146.86,46.86 1253.16,153.16
3D body "User Library-HDR1X1 Rectangular Straight.step": height 339.58, standoff -124.98, extent 1046.86,46.86 1153.16,153.16
3D body "User Library-HDR1X1 Rectangular Straight.step": height 339.58, standoff -124.98, extent 946.86,46.86 1053.16,153.16